# Altium footprint library Конденсаторы-mm.PcbLib: 128 footprints (part 1 of 8)
Each footprint in its own frame and in the unit in brackets; x right, y up, seen from the top. Pads: shape width x height; smd on the part's side, far side on the other; paste and mask are expansions set on the pad; w line width, h text height; cw(c..) or ccw(c..) is an arc to the next point about the centre after c.
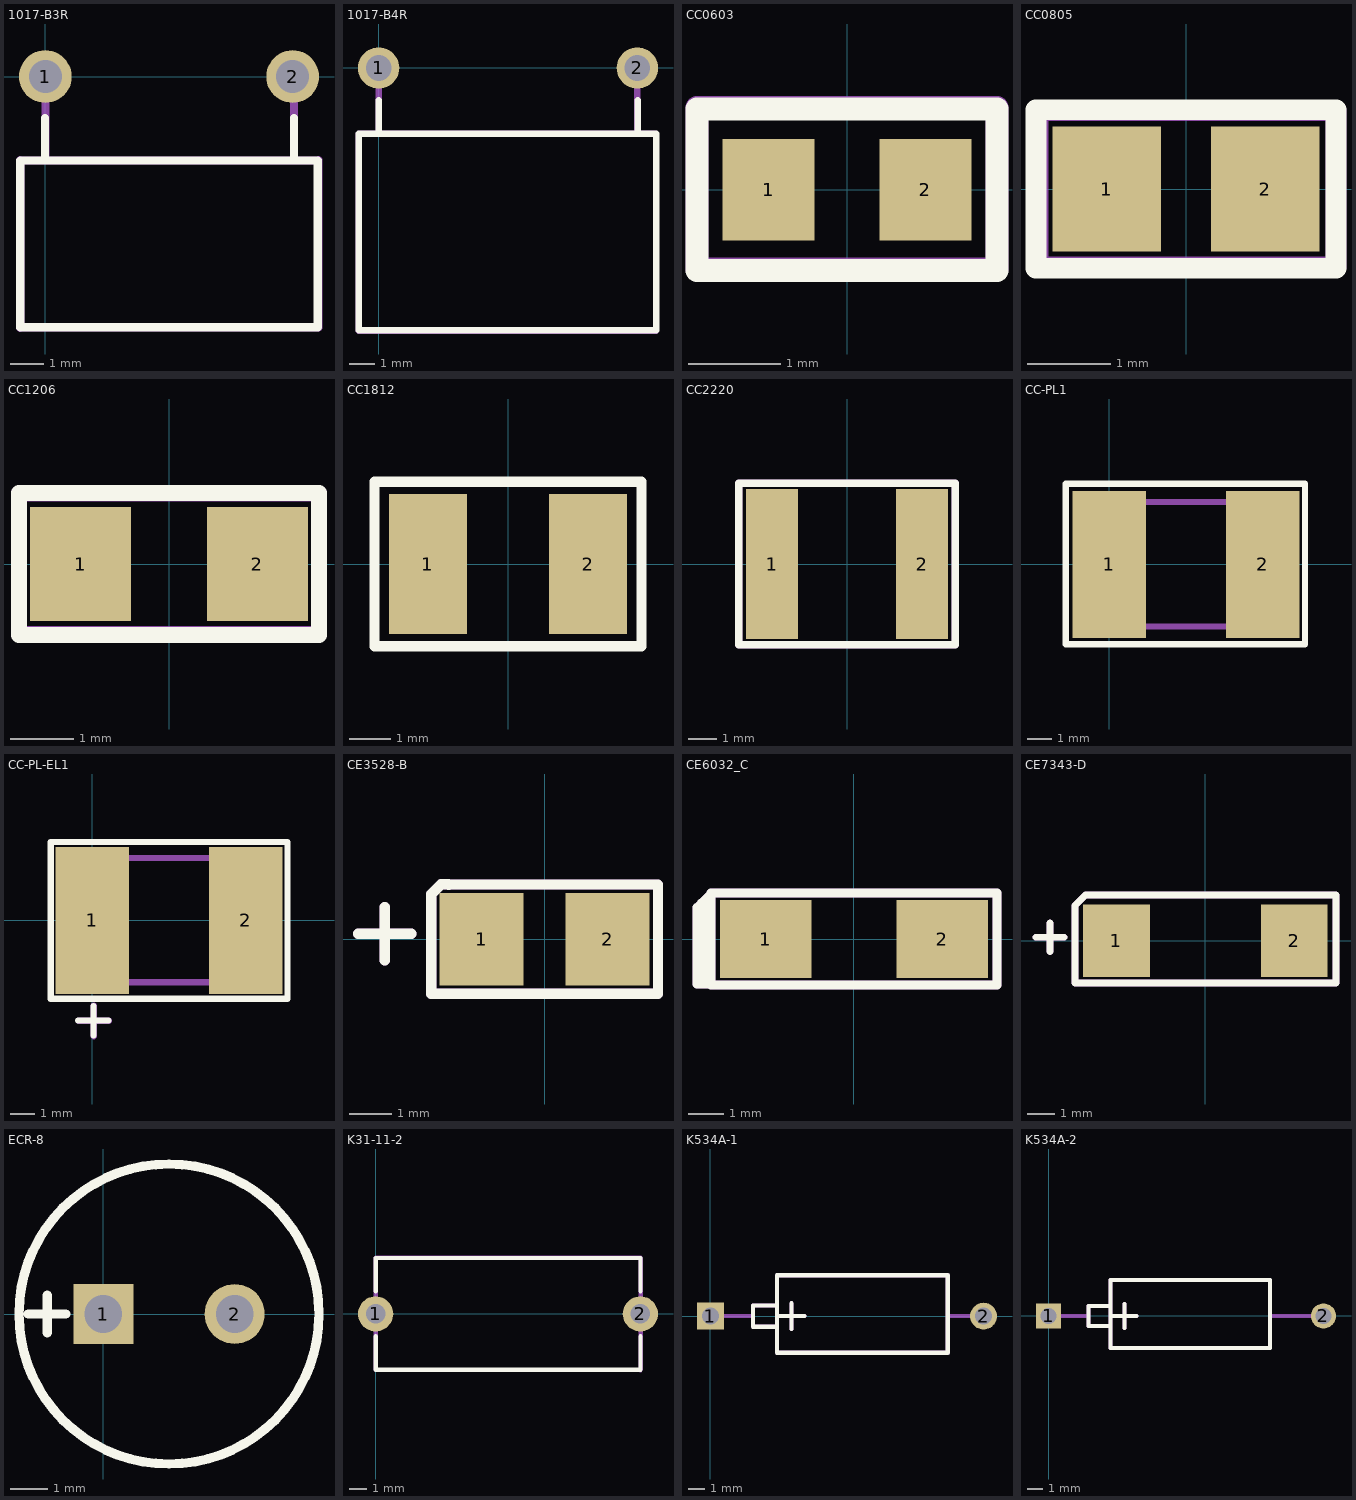
[diagram p0: the footprints below, top view; thin cyan lines are the x and y axes]

## 1017-B3R [mm]
pads (2):
  round 1.6 hole 1: 1(0,0) 2(7.5,0)
Top Overlay:
  lines w0.25: -0.76,-7.615 -0.76,-2.545 -0.175,-2.545 8.265,-2.545 8.265,-7.605 -0.76,-7.605 ; -0.015,-1.255 -0.015,-2.53 -0.005,-2.53 ; 7.545,-2.545 7.545,-1.255
Mechanical 1:
  lines w0.25: 0,-2.54 0,0 ; 7.54,-2.54 7.54,0 ; 8.26,-7.6 -0.762,-7.62 -0.762,-2.54 8.26,-2.55 ; 8.282,-7.61 8.282,-2.53

## 1017-B4R [mm]
pads (2):
  round 1.6 hole 1: 1(0,0) 2(10,0)
Top Overlay:
  lines w0.25: -0.765,-10.135 -0.765,-2.545 1.73,-2.545 10.725,-2.545 10.725,-10.15 -0.75,-10.15 ; 0.005,-1.255 0.005,-2.545 0.02,-2.545 ; 10.02,-2.545 10.02,-1.24
Mechanical 1:
  lines w0.25: 0,-2.54 0,0 ; 10,-2.54 10,-0.127 ; 10.71,-10.16 -0.762,-10.16 -0.762,-2.54 10.71,-2.54 ; 10.722,-10.16 10.722,-2.54

## CC0603 [mm]
pads (2):
  rect 1x1.1 smd: 1(-0.85,0) 2(0.85,0)
Top Overlay:
  lines w0.25: -1.625,-0.875 1.625,-0.875 1.625,0.875 -1.625,0.875 -1.625,-0.875
Mechanical 1:
  lines w0.25: -1.625,-0.86 1.625,-0.86 1.625,-0.11 1.625,0.89 0.75,0.89 -1.625,0.89 -1.625,-0.86

## CC0805 [mm]
pads (2):
  rect 1.3x1.5 smd: 1(-0.95,0) 2(0.95,0)
Top Overlay:
  lines w0.25: -1.8,-0.95 1.8,-0.95 1.8,0.95 -1.8,0.95 -1.8,-0.95
Mechanical 1:
  lines w0.25: -1.775,-0.935 1.8,-0.935 1.8,0.94 -1.775,0.94 -1.775,-0.935

## CC1206 [mm]
pads (2):
  rect 1.6x1.8 smd: 1(-1.4,0) 2(1.4,0)
Top Overlay:
  lines w0.25: -2.375,-1.125 2.375,-1.125 2.375,1.125 -2.375,1.125 -2.375,-1.125
Mechanical 1:
  lines w0.25: -2.375,-1.11 2.375,-1.11 2.375,1.115 -2.375,1.115 -2.375,-1.11

## CC1812 [mm]
pads (2):
  rect 1.9x3.4 smd: 1(-1.95,0) 2(1.95,0)
Top Overlay:
  lines w0.25: -3.25,-2 3.25,-2 3.25,2 -3.25,2 -3.25,-2

## CC2220 [mm]
pads (2):
  rect 1.8x5.2 smd: 1(-2.6,0) 2(2.6,0)
Top Overlay:
  lines w0.25: -3.75,-2.8 3.75,-2.8 3.75,2.8 -3.75,2.8 -3.75,-2.8
Mechanical 1:
  lines w0.25: -3.75,-2.8 3.75,-2.8 3.75,2.8 -3.75,2.8 -3.75,-2.8

## CC-PL1 [mm]
pads (2):
  rect 3x6 smd: 1(0,0) 2(6.25,0)
Top Overlay:
  lines w0.25: 7.99,-3.26 -1.785,-3.26 -1.785,-3.235 -1.785,3.29 1.59,3.29 7.99,3.29 7.99,-3.11 7.99,-3.235
Mechanical 1:
  lines w0.254: 0.82,-2.532 0.82,2.548 ; 5.265,-2.532 5.265,2.548 ; -0.45,-2.532 6.535,-2.532 6.535,2.548 -0.45,2.548 -0.45,-2.532

## CC-PL-EL1 [mm]
pads (2):
  rect 3x6 smd: 1(0,0) 2(6.25,0)
Top Overlay:
  lines w0.25: -1.72,-3.2 7.965,-3.2 7.965,3.205 1.45,3.205 -1.705,3.205 -1.705,-3.185 ; -0.595,-4.09 0.66,-4.09 ; 0.04,-4.705 0.04,-3.5
Mechanical 1:
  lines w0.254: -0.575,-4.105 0.675,-4.105 ; 0.05,-4.73 0.05,-3.48 ; 0.82,-2.532 0.82,2.548 ; 5.265,-2.532 5.265,2.548 ; -0.45,-2.532 6.535,-2.532 6.535,2.548 -0.45,2.548 -0.45,-2.532

## CE3528-B [mm]
pads (2):
  rect 2x2.2 smd: 1(-1.5,0) 2(1.5,0)
Top Overlay:
  lines w0.25: -4.445,0.127 -3.175,0.127 ; -3.81,-0.508 -3.81,0.762 ; -2.292,1.304 -2.466,1.304 -2.7,1.07 -2.7,0.941 -2.7,-1.3 2.7,-1.3 2.7,1.3 -2.289,1.299
Mechanical 1:
  lines w0.25: -4.445,0.127 -3.175,0.127 ; -3.81,-0.508 -3.81,0.762 ; -2.292,1.304 -2.466,1.304 -2.7,1.07 -2.7,0.941 -2.7,-1.3 2.7,-1.3 2.7,1.3 -2.289,1.299

## CE6032_C [mm]
pads (2):
  rect 2.6x2.2 smd: 1(-2.5,0) 2(2.5,0)
Top Overlay:
  lines w0.25: -4.191,-1.143 -4.191,1.016 ; -4.064,-1.27 -4.318,-1.27 ; -4.064,1.27 -4.318,1.016 ; -4.318,-1.27 -4.318,1.016 ; -4.318,-1.27 -4.445,-1.27 -4.445,0.889 -4.318,1.016 ; -4.05,-1.3 4.05,-1.3 4.05,1.3 -4.05,1.3 -4.05,-1.3
Mechanical 1:
  lines w0.25: -4.191,-1.143 -4.191,1.016 ; -4.064,-1.27 -4.318,-1.27 ; -4.064,1.27 -4.318,1.016 ; -4.318,-1.27 -4.318,1.016 ; -4.318,-1.27 -4.445,-1.27 -4.445,0.889 -4.318,1.016 ; -4.05,-1.3 4.05,-1.3 4.05,1.3 -4.05,1.3 -4.05,-1.3

## CE7343-D [mm]
pads (2):
  rect 2.4x2.6 smd: 1(-3.2,0) 2(3.2,0)
Top Overlay:
  lines w0.25: -6.096,0.127 -5.08,0.127 ; -5.588,-0.381 -5.588,0.635 ; -4.699,-1.524 4.699,-1.524 4.699,1.651 -4.318,1.651 -4.445,1.524 -4.699,1.27 -4.699,-1.524
Mechanical 1:
  lines w0.25: -6.096,0.127 -5.08,0.127 ; -5.588,-0.381 -5.588,0.635 ; -4.699,-1.524 4.699,-1.524 4.699,1.651 -4.318,1.651 -4.445,1.524 -4.699,1.27 -4.699,-1.524

## ECR-8 [mm]
pads (2):
  rect 1.6x1.6 hole 1: 1(0,0)
  round 1.6 hole 1: 2(3.5,0)
Top Overlay:
  circle w0.25: c1.75,0 r4
  lines w0.25: -2,0 -1,0 ; -1.5,-0.5 -1.5,0.5

## K31-11-2 [mm]
pads (2):
  round 2 hole 1.1: 1(0,0) 2(15,0)
Top Overlay:
  lines w0.25: 0,-1.28 0,-3.17 14.98,-3.17 ; 0,1.275 0,3.165 0.03,3.165 15.01,3.165 15.01,1.275 ; 15.01,-3.17 15.01,-1.28
Mechanical 1:
  lines w0.25: 15.01,-3.19 0,-3.175 0,3.175 15.01,3.17 ; 15.02,-3.145 15.03,3.15

## K534A-1 [mm]
pads (2):
  rect 1.6x1.6 hole 1: 1(0,0)
  round 1.6 hole 1: 2(16.25,0)
Top Overlay:
  lines w0.25: 3.937,-0.635 2.54,-0.635 2.54,0.635 3.937,0.635 ; 4.064,0 5.588,0 ; 4.826,-0.762 4.826,0.762 ; 3.962,-2.184 14.122,-2.184 14.122,0 14.122,2.438 3.962,2.438 3.962,-2.184
Mechanical 1:
  lines w0.25: 0,0 2.54,0 ; 3.937,-0.635 2.54,-0.635 2.54,0.635 3.937,0.635 ; 4.064,0 5.588,0 ; 4.826,-0.762 4.826,0.762 ; 14.097,0 16.02,0 ; 3.962,-2.184 14.122,-2.184 14.122,0 14.122,2.438 3.962,2.438 3.962,-2.184

## K534A-2 [mm]
pads (2):
  rect 1.6x1.6 hole 1: 1(0,0)
  round 1.6 hole 1: 2(17.5,0)
Top Overlay:
  lines w0.25: 3.937,-0.635 2.54,-0.635 2.54,0.635 3.937,0.635 ; 4.064,0 5.588,0 ; 4.826,-0.762 4.826,0.762 ; 3.937,-2.032 14.097,-2.032 14.097,2.286 3.937,2.286 3.937,-2.032
Mechanical 1:
  lines w0.25: 0,0 2.54,0 ; 3.937,-0.635 2.54,-0.635 2.54,0.635 3.937,0.635 ; 4.064,0 5.588,0 ; 4.826,-0.762 4.826,0.762 ; 14.097,0 17.26,0 ; 3.937,-2.032 14.097,-2.032 14.097,2.286 3.937,2.286 3.937,-2.032